# Altium footprint library PcbLib1.PcbLib: 1 footprints
Each footprint in its own frame and in the unit in brackets; x right, y up, seen from the top. Pads: shape width x height; smd on the part's side, far side on the other; paste and mask are expansions set on the pad; w line width, h text height; cw(c..) or ccw(c..) is an arc to the next point about the centre after c.
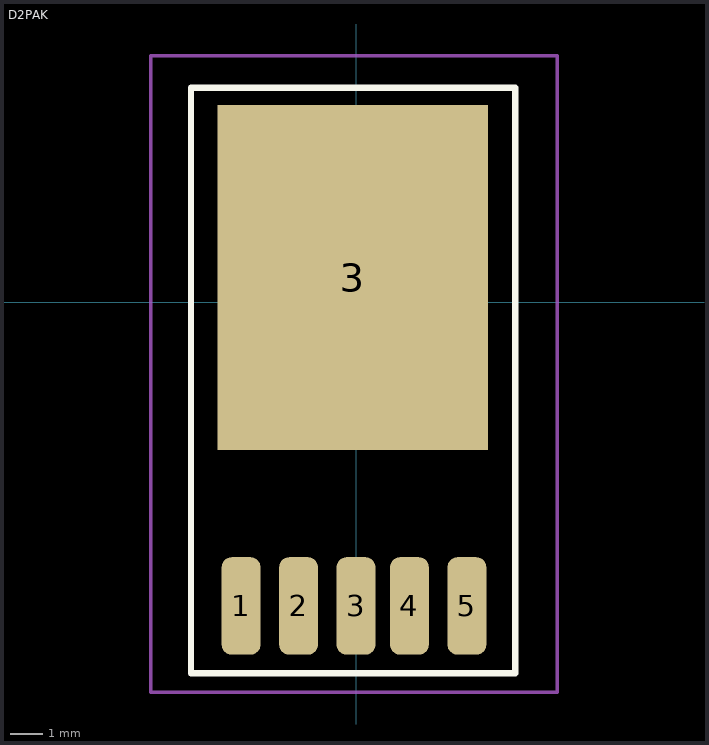
[diagram p0: the footprint, top view; thin cyan lines are the x and y axes]

## D2PAK [mm]
pads (6):
  rrect50% 1.2x3.015 smd mask+0.05: 1(-3.556,-9.398) 2(-1.778,-9.398) 3(0,-9.398) 4(1.651,-9.398) 5(3.429,-9.398)
  rect 8.38x10.66 smd mask+0.05: 3(-0.102,0.762)
Top Overlay:
  lines w0.2: -5.105,-11.481 -5.105,-7.595 -5.105,6.629 4.928,6.629 4.928,-11.481 -5.105,-11.481
Mechanical 15:
  lines w0.1: -0.991,0 0,0 0.914,0 ; 0,-1.016 0,1.016 ; -6.35,-12.065 -6.35,6.985 -6.35,7.62 6.223,7.62 6.223,-12.065 -6.35,-12.065
3D body "TO263-5-1.stp": height 4.22, standoff 0, extent -4.996,-9.714 4.826,4.888